# EAGLE library part HMC5883L-TR (library freeimu)
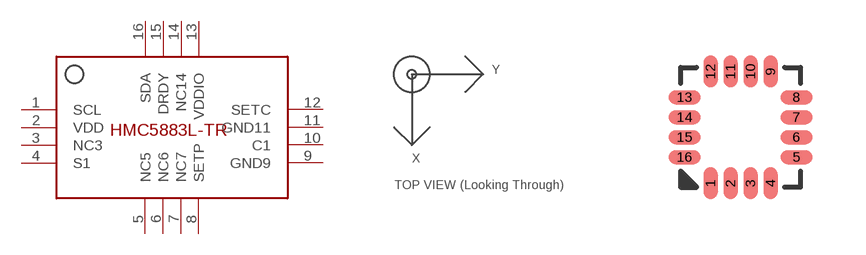
[diagram p2: symbol with the pads of HMC5883L-TR; footprint HMC5883L-TR]

Designator prefix -

## HMC5883L-TR  [HMC5883L-TR]
1  SCL
2  VDD
3  NC3
4  S1
5  NC5
6  NC6
7  NC7
8  SETP
9  GND9
10  C1
11  GND11
12  SETC
13  VDDIO
14  NC14
15  DRDY
16  SDA

## Footprint HMC5883L-TR (pad centres in mm)
smd 0.35 x 0.8: 1 -0.75,-1.4; 2 -0.25,-1.4; 3 0.25,-1.4; 4 0.75,-1.4; 9 0.75,1.4; 10 0.25,1.4; 11 -0.25,1.4; 12 -0.75,1.4
smd 0.8 x 0.35: 5 1.4,-0.75; 6 1.4,-0.25; 7 1.4,0.25; 8 1.4,0.75; 13 -1.4,0.75; 14 -1.4,0.25; 15 -1.4,-0.25; 16 -1.4,-0.75